# Altium footprint library WR-MM.PcbLib: 120 footprints (part 2 of 8)
Each footprint in its own frame and in the unit in brackets; x right, y up, seen from the top. Pads: shape width x height; smd on the part's side, far side on the other; paste and mask are expansions set on the pad; w line width, h text height; cw(c..) or ccw(c..) is an arc to the next point about the centre after c.
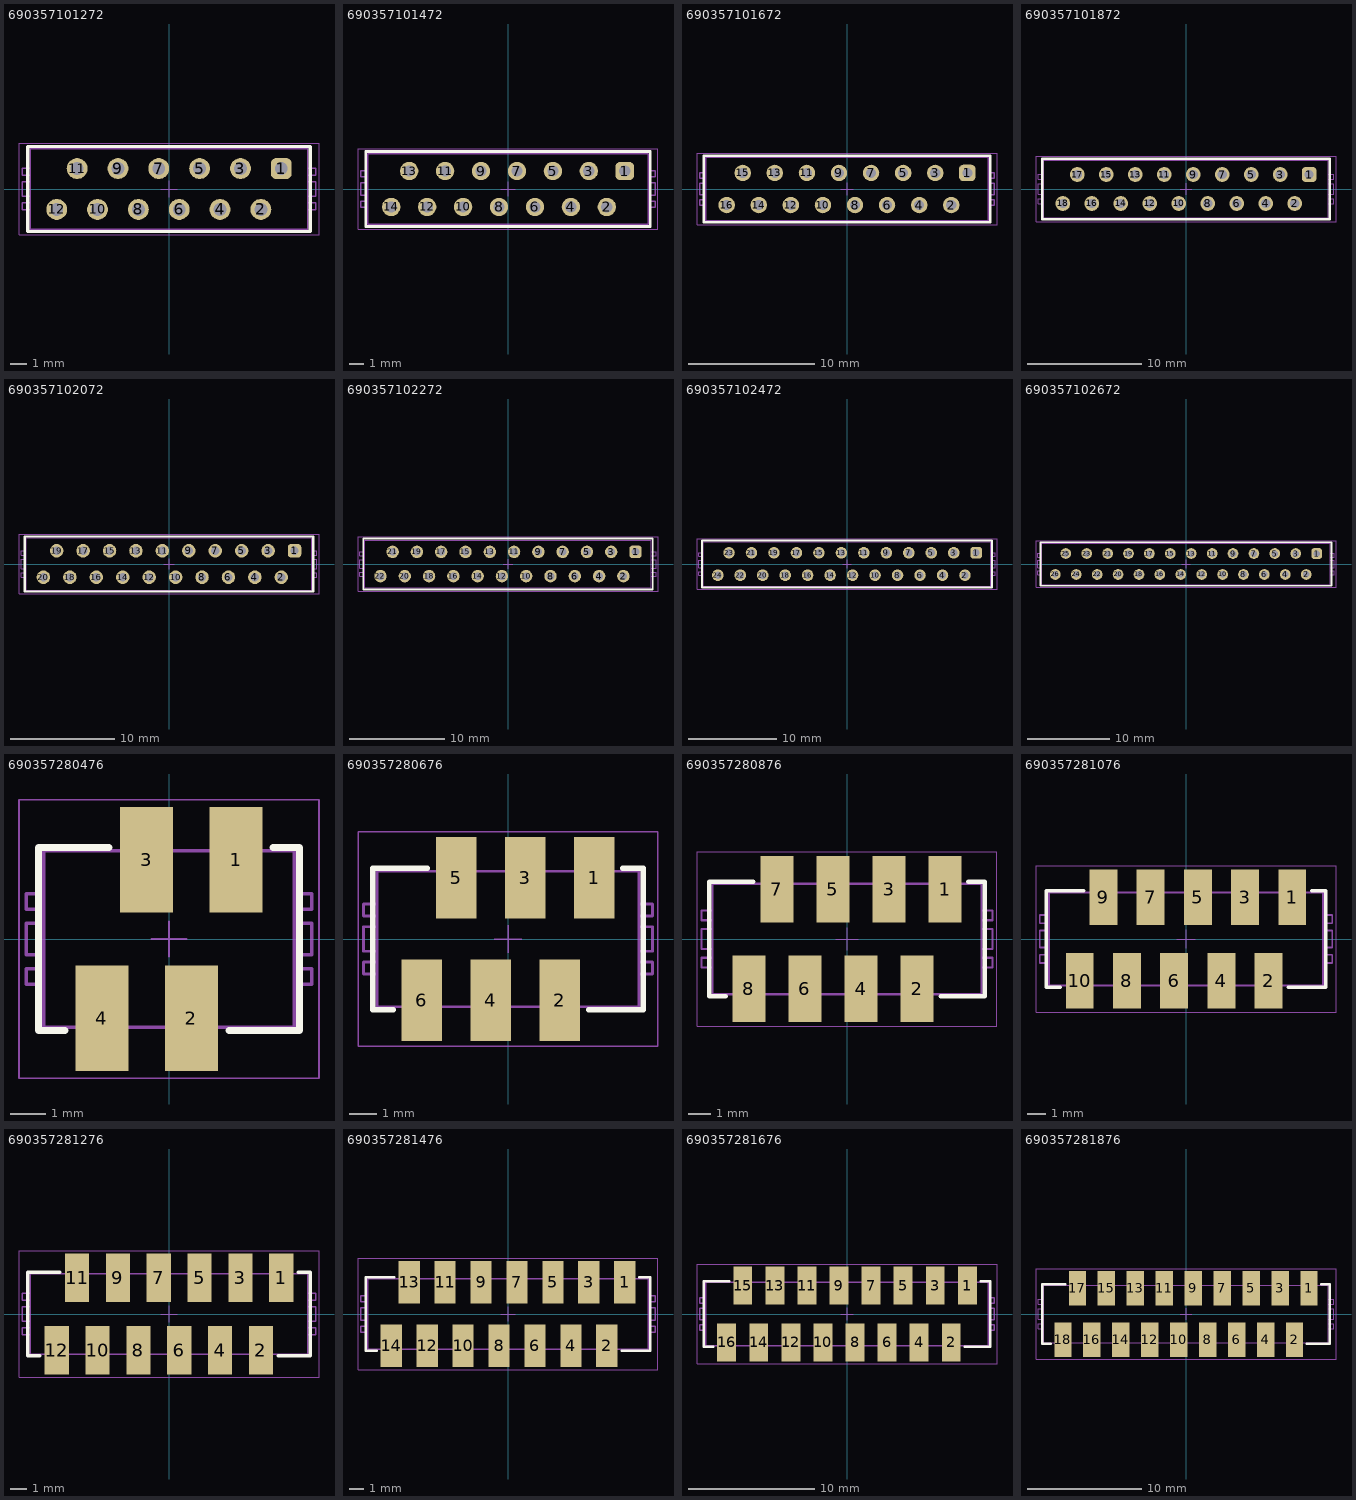
[diagram p1: the footprints below, top view; thin cyan lines are the x and y axes]

## 690357101272 [mm] "MiniModule Connectors, PCB Type, Male, THT, Vertical, 12p"
height 7.3
pads (12):
  rrect50% 1.3x1.3 hole 0.8: 1(6.985,1.27)
  round 1.3 hole 0.8: 2(5.715,-1.27) 3(4.445,1.27) 4(3.175,-1.27) 5(1.905,1.27) 6(0.635,-1.27) 7(-0.635,1.27) 8(-1.905,-1.27) 9(-3.175,1.27) 10(-4.445,-1.27) 11(-5.715,1.27) 12(-6.985,-1.27)
Top Overlay:
  lines w0.2: -8.785,-2.65 8.785,-2.65 8.785,2.65 -8.785,2.65 -8.785,-2.65
Top Designator:
  text ".Designator" at -7.498,-0.5 h1.5
Top Component Outline:
  lines w0.1: -8.635,-1.29 -9.135,-1.29 -9.135,-0.85 -8.635,-0.85 ; -8.635,-0.45 -9.135,-0.45 -9.135,0.45 -8.635,0.45 ; -8.635,0.85 -9.135,0.85 -9.135,1.29 -8.635,1.29 ; 8.635,-1.29 9.135,-1.29 9.135,-0.85 8.635,-0.85 ; 8.635,-0.45 9.135,-0.45 9.135,0.45 8.635,0.45 ; 8.635,0.85 9.135,0.85 9.135,1.29 8.635,1.29 ; -8.635,-2.5 -8.635,2.5 8.635,2.5 8.635,-2.5 -8.635,-2.5
Top 3D Body:
  lines w0.1: -8.635,-1.29 -9.135,-1.29 -9.135,-0.85 -8.635,-0.85 ; -8.635,-0.45 -9.135,-0.45 -9.135,0.45 -8.635,0.45 ; -8.635,0.85 -9.135,0.85 -9.135,1.29 -8.635,1.29 ; 8.635,-1.29 9.135,-1.29 9.135,-0.85 8.635,-0.85 ; 8.635,-0.45 9.135,-0.45 9.135,0.45 8.635,0.45 ; 8.635,0.85 9.135,0.85 9.135,1.29 8.635,1.29 ; -8.635,-2.5 8.635,-2.5 8.635,2.5 -8.635,2.5 -8.635,-2.5
Top Courtyard:
  lines w0.05: -0.5,0 0.5,0 ; 0,-0.5 0,0.5 ; -9.335,-2.85 9.335,-2.85 9.335,2.85 -9.335,2.85 -9.335,-2.85
3D body "690357101272.stp": height 7.05, standoff -3.05, extent -9.135,-2.5 9.135,2.5

## 690357101472 [mm] "MiniModule Connectors, PCB Type, Male, THT, Vertical, 14p"
height 7.3
pads (14):
  rrect50% 1.3x1.3 hole 0.8: 1(8.255,1.27)
  round 1.3 hole 0.8: 2(6.985,-1.27) 3(5.715,1.27) 4(4.445,-1.27) 5(3.175,1.27) 6(1.905,-1.27) 7(0.635,1.27) 8(-0.635,-1.27) 9(-1.905,1.27) 10(-3.175,-1.27) 11(-4.445,1.27) 12(-5.715,-1.27) 13(-6.985,1.27) 14(-8.255,-1.27)
Top Overlay:
  lines w0.2: -10.055,-2.65 10.055,-2.65 10.055,2.65 -10.055,2.65 -10.055,-2.65
Top Designator:
  text ".Designator" at -7.498,-0.5 h1.5
Top Component Outline:
  lines w0.1: -9.905,-1.29 -10.405,-1.29 -10.405,-0.85 -9.905,-0.85 ; -9.905,-0.45 -10.405,-0.45 -10.405,0.45 -9.905,0.45 ; -9.905,0.85 -10.405,0.85 -10.405,1.29 -9.905,1.29 ; 9.905,-1.29 10.405,-1.29 10.405,-0.85 9.905,-0.85 ; 9.905,-0.45 10.405,-0.45 10.405,0.45 9.905,0.45 ; 9.905,0.85 10.405,0.85 10.405,1.29 9.905,1.29 ; -9.905,-2.5 -9.905,2.5 9.905,2.5 9.905,-2.5 -9.905,-2.5
Top 3D Body:
  lines w0.1: -9.905,-1.29 -10.405,-1.29 -10.405,-0.85 -9.905,-0.85 ; -9.905,-0.45 -10.405,-0.45 -10.405,0.45 -9.905,0.45 ; -9.905,0.85 -10.405,0.85 -10.405,1.29 -9.905,1.29 ; 9.905,-1.29 10.405,-1.29 10.405,-0.85 9.905,-0.85 ; 9.905,-0.45 10.405,-0.45 10.405,0.45 9.905,0.45 ; 9.905,0.85 10.405,0.85 10.405,1.29 9.905,1.29 ; -9.905,-2.5 9.905,-2.5 9.905,2.5 -9.905,2.5 -9.905,-2.5
Top Courtyard:
  lines w0.05: -0.5,0 0.5,0 ; 0,-0.5 0,0.5 ; -10.605,-2.85 10.605,-2.85 10.605,2.85 -10.605,2.85 -10.605,-2.85
3D body "690357101472.stp": height 7.05, standoff -3.05, extent -10.405,-2.5 10.405,2.5

## 690357101672 [mm] "MiniModule Connectors, PCB Type, Male, THT, Vertical, 16p"
height 7.3
pads (16):
  rrect50% 1.3x1.3 hole 0.8: 1(9.525,1.27)
  round 1.3 hole 0.8: 2(8.255,-1.27) 3(6.985,1.27) 4(5.715,-1.27) 5(4.445,1.27) 6(3.175,-1.27) 7(1.905,1.27) 8(0.635,-1.27) 9(-0.635,1.27) 10(-1.905,-1.27) 11(-3.175,1.27) 12(-4.445,-1.27) 13(-5.715,1.27) 14(-6.985,-1.27) 15(-8.255,1.27) 16(-9.525,-1.27)
Top Overlay:
  lines w0.2: -11.325,-2.65 -11.325,2.65 11.325,2.65 11.325,-2.65 -11.325,-2.65
Top Designator:
  text ".Designator" at -7.498,-0.5 h1.5
Top Component Outline:
  lines w0.1: -11.175,-1.29 -11.675,-1.29 -11.675,-0.85 -11.175,-0.85 ; -11.175,-0.45 -11.675,-0.45 -11.675,0.45 -11.175,0.45 ; -11.175,0.85 -11.675,0.85 -11.675,1.29 -11.175,1.29 ; 11.175,-1.29 11.675,-1.29 11.675,-0.85 11.175,-0.85 ; 11.175,-0.45 11.675,-0.45 11.675,0.45 11.175,0.45 ; 11.175,0.85 11.675,0.85 11.675,1.29 11.175,1.29 ; -11.175,-2.5 11.175,-2.5 11.175,2.5 -11.175,2.5 -11.175,-2.5
Top 3D Body:
  lines w0.1: -11.175,-1.29 -11.675,-1.29 -11.675,-0.85 -11.175,-0.85 ; -11.175,-0.45 -11.675,-0.45 -11.675,0.45 -11.175,0.45 ; -11.175,0.85 -11.675,0.85 -11.675,1.29 -11.175,1.29 ; 11.175,-1.29 11.675,-1.29 11.675,-0.85 11.175,-0.85 ; 11.175,-0.45 11.675,-0.45 11.675,0.45 11.175,0.45 ; 11.175,0.85 11.675,0.85 11.675,1.29 11.175,1.29 ; -11.175,-2.5 -11.175,2.5 11.175,2.5 11.175,-2.5 -11.175,-2.5
Top Courtyard:
  lines w0.05: -0.5,0 0.5,0 ; 0,-0.5 0,0.5 ; -11.875,-2.85 -11.875,2.85 11.875,2.85 11.875,-2.85 -11.875,-2.85
3D body "690357101672.stp": height 7.05, standoff -3.05, extent -11.675,-2.5 11.675,2.5

## 690357101872 [mm] "MiniModule Connectors, PCB Type, Male, THT, Vertical, 18p"
height 7.3
pads (18):
  rrect50% 1.3x1.3 hole 0.8: 1(10.795,1.27)
  round 1.3 hole 0.8: 2(9.525,-1.27) 3(8.255,1.27) 4(6.985,-1.27) 5(5.715,1.27) 6(4.445,-1.27) 7(3.175,1.27) 8(1.905,-1.27) 9(0.635,1.27) 10(-0.635,-1.27) 11(-1.905,1.27) 12(-3.175,-1.27) 13(-4.445,1.27) 14(-5.715,-1.27) 15(-6.985,1.27) 16(-8.255,-1.27) 17(-9.525,1.27) 18(-10.795,-1.27)
Top Overlay:
  lines w0.2: -12.595,-2.65 -12.595,2.65 12.595,2.65 12.595,-2.65 -12.595,-2.65
Top Designator:
  text ".Designator" at -7.498,-0.5 h1.5
Top Component Outline:
  lines w0.1: -12.445,-1.29 -12.945,-1.29 -12.945,-0.85 -12.445,-0.85 ; -12.445,-0.45 -12.945,-0.45 -12.945,0.45 -12.445,0.45 ; -12.445,0.85 -12.945,0.85 -12.945,1.29 -12.445,1.29 ; 12.445,-1.29 12.945,-1.29 12.945,-0.85 12.445,-0.85 ; 12.445,-0.45 12.945,-0.45 12.945,0.45 12.445,0.45 ; 12.445,0.85 12.945,0.85 12.945,1.29 12.445,1.29 ; -12.445,-2.5 12.445,-2.5 12.445,2.5 -12.445,2.5 -12.445,-2.5
Top 3D Body:
  lines w0.1: -12.445,-1.29 -12.945,-1.29 -12.945,-0.85 -12.445,-0.85 ; -12.445,-0.45 -12.945,-0.45 -12.945,0.45 -12.445,0.45 ; -12.445,0.85 -12.945,0.85 -12.945,1.29 -12.445,1.29 ; 12.445,-1.29 12.945,-1.29 12.945,-0.85 12.445,-0.85 ; 12.445,-0.45 12.945,-0.45 12.945,0.45 12.445,0.45 ; 12.445,0.85 12.945,0.85 12.945,1.29 12.445,1.29 ; -12.445,-2.5 -12.445,2.5 12.445,2.5 12.445,-2.5 -12.445,-2.5
Top Courtyard:
  lines w0.05: -0.5,0 0.5,0 ; 0,-0.5 0,0.5 ; -13.145,-2.85 -13.145,2.85 13.145,2.85 13.145,-2.85 -13.145,-2.85
3D body "690357101872.stp": height 7.05, standoff -3.05, extent -12.945,-2.5 12.945,2.5

## 690357102072 [mm] "MiniModule Connectors, PCB Type, Male, THT, Vertical, 20p"
height 7.3
pads (20):
  rrect50% 1.3x1.3 hole 0.8: 1(12.065,1.27)
  round 1.3 hole 0.8: 2(10.795,-1.27) 3(9.525,1.27) 4(8.255,-1.27) 5(6.985,1.27) 6(5.715,-1.27) 7(4.445,1.27) 8(3.175,-1.27) 9(1.905,1.27) 10(0.635,-1.27) 11(-0.635,1.27) 12(-1.905,-1.27) 13(-3.175,1.27) 14(-4.445,-1.27) 15(-5.715,1.27) 16(-6.985,-1.27) 17(-8.255,1.27) 18(-9.525,-1.27) 19(-10.795,1.27) 20(-12.065,-1.27)
Top Overlay:
  lines w0.2: -13.865,-2.65 13.865,-2.65 13.865,2.65 -13.865,2.65 -13.865,-2.65
Top Designator:
  text ".Designator" at -7.498,-0.5 h1.5
Top Component Outline:
  lines w0.1: -13.715,-1.29 -14.215,-1.29 -14.215,-0.85 -13.715,-0.85 ; -13.715,-0.45 -14.215,-0.45 -14.215,0.45 -13.715,0.45 ; -13.715,0.85 -14.215,0.85 -14.215,1.29 -13.715,1.29 ; 13.715,-1.29 14.215,-1.29 14.215,-0.85 13.715,-0.85 ; 13.715,-0.45 14.215,-0.45 14.215,0.45 13.715,0.45 ; 13.715,0.85 14.215,0.85 14.215,1.29 13.715,1.29 ; -13.715,-2.5 -13.715,2.5 13.715,2.5 13.715,-2.5 -13.715,-2.5
Top 3D Body:
  lines w0.1: -13.715,-1.29 -14.215,-1.29 -14.215,-0.85 -13.715,-0.85 ; -13.715,-0.45 -14.215,-0.45 -14.215,0.45 -13.715,0.45 ; -13.715,0.85 -14.215,0.85 -14.215,1.29 -13.715,1.29 ; 13.715,-1.29 14.215,-1.29 14.215,-0.85 13.715,-0.85 ; 13.715,-0.45 14.215,-0.45 14.215,0.45 13.715,0.45 ; 13.715,0.85 14.215,0.85 14.215,1.29 13.715,1.29 ; -13.715,-2.5 13.715,-2.5 13.715,2.5 -13.715,2.5 -13.715,-2.5
Top Courtyard:
  lines w0.05: -0.5,0 0.5,0 ; 0,-0.5 0,0.5 ; -14.415,-2.85 14.415,-2.85 14.415,2.85 -14.415,2.85 -14.415,-2.85
3D body "690357102072.stp": height 7.05, standoff -3.05, extent -14.215,-2.5 14.215,2.5

## 690357102272 [mm] "MiniModule Connectors, PCB Type, Male, THT, Vertical, 22p"
height 7.3
pads (22):
  rrect50% 1.3x1.3 hole 0.8: 1(13.335,1.27)
  round 1.3 hole 0.8: 2(12.065,-1.27) 3(10.795,1.27) 4(9.525,-1.27) 5(8.255,1.27) 6(6.985,-1.27) 7(5.715,1.27) 8(4.445,-1.27) 9(3.175,1.27) 10(1.905,-1.27) 11(0.635,1.27) 12(-0.635,-1.27) 13(-1.905,1.27) 14(-3.175,-1.27) 15(-4.445,1.27) 16(-5.715,-1.27) 17(-6.985,1.27) 18(-8.255,-1.27) 19(-9.525,1.27) 20(-10.795,-1.27) 21(-12.065,1.27) 22(-13.335,-1.27)
Top Overlay:
  lines w0.2: -15.135,-2.65 -15.135,2.65 15.135,2.65 15.135,-2.65 -15.135,-2.65
Top Designator:
  text ".Designator" at -7.498,-0.5 h1.5
Top Component Outline:
  lines w0.1: -14.985,-1.29 -15.485,-1.29 -15.485,-0.85 -14.985,-0.85 ; -14.985,-0.45 -15.485,-0.45 -15.485,0.45 -14.985,0.45 ; -14.985,0.85 -15.485,0.85 -15.485,1.29 -14.985,1.29 ; 14.985,-1.29 15.485,-1.29 15.485,-0.85 14.985,-0.85 ; 14.985,-0.45 15.485,-0.45 15.485,0.45 14.985,0.45 ; 14.985,0.85 15.485,0.85 15.485,1.29 14.985,1.29 ; -14.985,-2.5 14.985,-2.5 14.985,2.5 -14.985,2.5 -14.985,-2.5
Top 3D Body:
  lines w0.1: -14.985,-1.29 -15.485,-1.29 -15.485,-0.85 -14.985,-0.85 ; -14.985,-0.45 -15.485,-0.45 -15.485,0.45 -14.985,0.45 ; -14.985,0.85 -15.485,0.85 -15.485,1.29 -14.985,1.29 ; 14.985,-1.29 15.485,-1.29 15.485,-0.85 14.985,-0.85 ; 14.985,-0.45 15.485,-0.45 15.485,0.45 14.985,0.45 ; 14.985,0.85 15.485,0.85 15.485,1.29 14.985,1.29 ; -14.985,-2.5 -14.985,2.5 14.985,2.5 14.985,-2.5 -14.985,-2.5
Top Courtyard:
  lines w0.05: -0.5,0 0.5,0 ; 0,-0.5 0,0.5 ; -15.685,-2.85 -15.685,2.85 15.685,2.85 15.685,-2.85 -15.685,-2.85
3D body "690357102272.stp": height 7.05, standoff -3.05, extent -15.485,-2.5 15.485,2.5

## 690357102472 [mm] "MiniModule Connectors, PCB Type, Male, THT, Vertical, 24p"
height 7.3
pads (24):
  rrect50% 1.3x1.3 hole 0.8: 1(14.605,1.27)
  round 1.3 hole 0.8: 2(13.335,-1.27) 3(12.065,1.27) 4(10.795,-1.27) 5(9.525,1.27) 6(8.255,-1.27) 7(6.985,1.27) 8(5.715,-1.27) 9(4.445,1.27) 10(3.175,-1.27) 11(1.905,1.27) 12(0.635,-1.27) 13(-0.635,1.27) 14(-1.905,-1.27) 15(-3.175,1.27) 16(-4.445,-1.27) 17(-5.715,1.27) 18(-6.985,-1.27) 19(-8.255,1.27) 20(-9.525,-1.27) 21(-10.795,1.27) 22(-12.065,-1.27) 23(-13.335,1.27) 24(-14.605,-1.27)
Top Overlay:
  lines w0.2: -16.405,-2.65 -16.405,2.65 16.405,2.65 16.405,-2.65 -16.405,-2.65
Top Designator:
  text ".Designator" at -7.498,-0.5 h1.5
Top Component Outline:
  lines w0.1: -16.255,-1.29 -16.755,-1.29 -16.755,-0.85 -16.255,-0.85 ; -16.255,-0.45 -16.755,-0.45 -16.755,0.45 -16.255,0.45 ; -16.255,0.85 -16.755,0.85 -16.755,1.29 -16.255,1.29 ; 16.255,-1.29 16.755,-1.29 16.755,-0.85 16.255,-0.85 ; 16.255,-0.45 16.755,-0.45 16.755,0.45 16.255,0.45 ; 16.255,0.85 16.755,0.85 16.755,1.29 16.255,1.29 ; -16.255,-2.5 16.255,-2.5 16.255,2.5 -16.255,2.5 -16.255,-2.5
Top 3D Body:
  lines w0.1: -16.255,-1.29 -16.755,-1.29 -16.755,-0.85 -16.255,-0.85 ; -16.255,-0.45 -16.755,-0.45 -16.755,0.45 -16.255,0.45 ; -16.255,0.85 -16.755,0.85 -16.755,1.29 -16.255,1.29 ; 16.255,-1.29 16.755,-1.29 16.755,-0.85 16.255,-0.85 ; 16.255,-0.45 16.755,-0.45 16.755,0.45 16.255,0.45 ; 16.255,0.85 16.755,0.85 16.755,1.29 16.255,1.29 ; -16.255,-2.5 -16.255,2.5 16.255,2.5 16.255,-2.5 -16.255,-2.5
Top Courtyard:
  lines w0.05: -0.5,0 0.5,0 ; 0,-0.5 0,0.5 ; -16.955,-2.85 -16.955,2.85 16.955,2.85 16.955,-2.85 -16.955,-2.85
3D body "690357102472.stp": height 7.05, standoff -3.05, extent -16.755,-2.5 16.755,2.5

## 690357102672 [mm] "MiniModule Connectors, PCB Type, Male, THT, Vertical, 26p"
height 7.3
pads (26):
  rrect50% 1.3x1.3 hole 0.8: 1(15.875,1.27)
  round 1.3 hole 0.8: 2(14.605,-1.27) 3(13.335,1.27) 4(12.065,-1.27) 5(10.795,1.27) 6(9.525,-1.27) 7(8.255,1.27) 8(6.985,-1.27) 9(5.715,1.27) 10(4.445,-1.27) 11(3.175,1.27) 12(1.905,-1.27) 13(0.635,1.27) 14(-0.635,-1.27) 15(-1.905,1.27) 16(-3.175,-1.27) 17(-4.445,1.27) 18(-5.715,-1.27) 19(-6.985,1.27) 20(-8.255,-1.27) 21(-9.525,1.27) 22(-10.795,-1.27) 23(-12.065,1.27) 24(-13.335,-1.27) 25(-14.605,1.27) 26(-15.875,-1.27)
Top Overlay:
  lines w0.2: -17.675,-2.65 -17.675,2.65 17.675,2.65 17.675,-2.65 -17.675,-2.65
Top Designator:
  text ".Designator" at -7.498,-0.5 h1.5
Top Component Outline:
  lines w0.1: -17.525,-1.29 -18.025,-1.29 -18.025,-0.85 -17.525,-0.85 ; -17.525,-0.45 -18.025,-0.45 -18.025,0.45 -17.525,0.45 ; -17.525,0.85 -18.025,0.85 -18.025,1.29 -17.525,1.29 ; 17.525,-1.29 18.025,-1.29 18.025,-0.85 17.525,-0.85 ; 17.525,-0.45 18.025,-0.45 18.025,0.45 17.525,0.45 ; 17.525,0.85 18.025,0.85 18.025,1.29 17.525,1.29 ; -17.525,-2.5 17.525,-2.5 17.525,2.5 -17.525,2.5 -17.525,-2.5
Top 3D Body:
  lines w0.1: -17.525,-1.29 -18.025,-1.29 -18.025,-0.85 -17.525,-0.85 ; -17.525,-0.45 -18.025,-0.45 -18.025,0.45 -17.525,0.45 ; -17.525,0.85 -18.025,0.85 -18.025,1.29 -17.525,1.29 ; 17.525,-1.29 18.025,-1.29 18.025,-0.85 17.525,-0.85 ; 17.525,-0.45 18.025,-0.45 18.025,0.45 17.525,0.45 ; 17.525,0.85 18.025,0.85 18.025,1.29 17.525,1.29 ; -17.525,-2.5 -17.525,2.5 17.525,2.5 17.525,-2.5 -17.525,-2.5
Top Courtyard:
  lines w0.05: -0.5,0 0.5,0 ; 0,-0.5 0,0.5 ; -18.225,-2.85 -18.225,2.85 18.225,2.85 18.225,-2.85 -18.225,-2.85
3D body "690357102672.stp": height 7.05, standoff -3.05, extent -18.025,-2.5 18.025,2.5

## 690357280476 [mm] "MiniModule Connectors, PCB Type, Male, SMT, Vertical, 4p"
height 4.8
pads (4):
  rect 1.5x3 smd: 1(1.905,2.25) 2(0.635,-2.25) 3(-0.635,2.25) 4(-1.905,-2.25)
Top Overlay:
  lines w0.2: -2.95,-2.6 -3.705,-2.6 -3.705,2.6 -1.7,2.6 ; 1.7,-2.6 3.705,-2.6 3.705,2.6 2.95,2.6
Top Designator:
  text ".Designator" at -7.498,-0.5 h1.5
Top Component Outline:
  lines w0.1: -3.555,-1.29 -4.055,-1.29 -4.055,-0.85 -3.555,-0.85 ; -3.555,-0.45 -4.055,-0.45 -4.055,0.45 -3.555,0.45 ; -3.555,0.85 -4.055,0.85 -4.055,1.29 -3.555,1.29 ; -2.155,-2.5 -2.155,-3.25 -1.655,-3.25 -1.655,-2.5 ; -0.885,2.5 -0.885,3.25 -0.385,3.25 -0.385,2.5 ; 0.385,-2.5 0.385,-3.25 0.885,-3.25 0.885,-2.5 ; 1.655,2.5 1.655,3.25 2.155,3.25 2.155,2.5 ; 3.555,-1.29 4.055,-1.29 4.055,-0.85 3.555,-0.85 ; 3.555,-0.45 4.055,-0.45 4.055,0.45 3.555,0.45 ; 3.555,0.85 4.055,0.85 4.055,1.29 3.555,1.29 ; -3.555,-2.5 3.555,-2.5 ; -3.555,-2.5 3.555,-2.5 ; -3.555,-2.5 -3.555,2.5 3.555,2.5 3.555,-2.5
Top 3D Body:
  lines w0.1: -3.555,-1.29 -4.055,-1.29 -4.055,-0.85 -3.555,-0.85 ; -3.555,-0.45 -4.055,-0.45 -4.055,0.45 -3.555,0.45 ; -3.555,0.85 -4.055,0.85 -4.055,1.29 -3.555,1.29 ; -2.155,-2.5 -2.155,-3.25 -1.655,-3.25 -1.655,-2.5 ; -0.885,2.5 -0.885,3.25 -0.385,3.25 -0.385,2.5 ; 0.385,-2.5 0.385,-3.25 0.885,-3.25 0.885,-2.5 ; 1.655,2.5 1.655,3.25 2.155,3.25 2.155,2.5 ; 3.555,-1.29 4.055,-1.29 4.055,-0.85 3.555,-0.85 ; 3.555,-0.45 4.055,-0.45 4.055,0.45 3.555,0.45 ; 3.555,0.85 4.055,0.85 4.055,1.29 3.555,1.29 ; -3.555,-2.5 -3.555,2.5 3.555,2.5 3.555,-2.5 ; -3.555,-2.5 3.555,-2.5 ; -3.555,-2.5 3.555,-2.5
Top Courtyard:
  lines w0.05: -0.5,0 0.5,0 ; 0,-0.5 0,0.5 ; -4.255,-3.95 4.255,-3.95 4.255,3.95 -4.255,3.95 -4.255,-3.95
3D body "690357280476.stp": height 5.16, standoff 0.01, extent -4.055,-3.25 4.055,3.25

## 690357280676 [mm] "MiniModule Connectors, PCB Type, Male, SMT, Vertical, 6p"
height 4.8
pads (6):
  rect 1.5x3 smd: 1(3.175,2.25) 2(1.905,-2.25) 3(0.635,2.25) 4(-0.635,-2.25) 5(-1.905,2.25) 6(-3.175,-2.25)
Top Overlay:
  lines w0.2: -4.22,-2.6 -4.975,-2.6 -4.975,2.6 -2.97,2.6 ; 2.97,-2.6 4.975,-2.6 4.975,2.6 4.22,2.6
Top Designator:
  text ".Designator" at -7.498,-0.5 h1.5
Top Component Outline:
  lines w0.1: -4.825,-1.29 -5.325,-1.29 -5.325,-0.85 -4.825,-0.85 ; -4.825,-0.45 -5.325,-0.45 -5.325,0.45 -4.825,0.45 ; -4.825,0.85 -5.325,0.85 -5.325,1.29 -4.825,1.29 ; -3.425,-2.5 -3.425,-3.25 -2.925,-3.25 -2.925,-2.5 ; -2.155,2.5 -2.155,3.25 -1.655,3.25 -1.655,2.5 ; -0.885,-2.5 -0.885,-3.25 -0.385,-3.25 -0.385,-2.5 ; 0.385,2.5 0.385,3.25 0.885,3.25 0.885,2.5 ; 1.655,-2.5 1.655,-3.25 2.155,-3.25 2.155,-2.5 ; 2.925,2.5 2.925,3.25 3.425,3.25 3.425,2.5 ; 4.825,-1.29 5.325,-1.29 5.325,-0.85 4.825,-0.85 ; 4.825,-0.45 5.325,-0.45 5.325,0.45 4.825,0.45 ; 4.825,0.85 5.325,0.85 5.325,1.29 4.825,1.29 ; -4.825,-2.5 4.825,-2.5 ; -4.825,-2.5 4.825,-2.5 ; -4.825,-2.5 -4.825,2.5 4.825,2.5 4.825,-2.5
Top 3D Body:
  lines w0.1: -4.825,-1.29 -5.325,-1.29 -5.325,-0.85 -4.825,-0.85 ; -4.825,-0.45 -5.325,-0.45 -5.325,0.45 -4.825,0.45 ; -4.825,0.85 -5.325,0.85 -5.325,1.29 -4.825,1.29 ; -3.425,-2.5 -3.425,-3.25 -2.925,-3.25 -2.925,-2.5 ; -2.155,2.5 -2.155,3.25 -1.655,3.25 -1.655,2.5 ; -0.885,-2.5 -0.885,-3.25 -0.385,-3.25 -0.385,-2.5 ; 0.385,2.5 0.385,3.25 0.885,3.25 0.885,2.5 ; 1.655,-2.5 1.655,-3.25 2.155,-3.25 2.155,-2.5 ; 2.925,2.5 2.925,3.25 3.425,3.25 3.425,2.5 ; 4.825,-1.29 5.325,-1.29 5.325,-0.85 4.825,-0.85 ; 4.825,-0.45 5.325,-0.45 5.325,0.45 4.825,0.45 ; 4.825,0.85 5.325,0.85 5.325,1.29 4.825,1.29 ; -4.825,-2.5 -4.825,2.5 4.825,2.5 4.825,-2.5 ; -4.825,-2.5 4.825,-2.5 ; -4.825,-2.5 4.825,-2.5
Top Courtyard:
  lines w0.05: -0.5,0 0.5,0 ; 0,-0.5 0,0.5 ; -5.525,-3.95 5.525,-3.95 5.525,3.95 -5.525,3.95 -5.525,-3.95
3D body "690357280676.stp": height 5.16, standoff 0.01, extent -5.325,-3.25 5.325,3.25

## 690357280876 [mm] "MiniModule Connectors, PCB Type, Male, SMT, Vertical, 8p"
height 4.8
pads (8):
  rect 1.5x3 smd: 1(4.445,2.25) 2(3.175,-2.25) 3(1.905,2.25) 4(0.635,-2.25) 5(-0.635,2.25) 6(-1.905,-2.25) 7(-3.175,2.25) 8(-4.445,-2.25)
Top Overlay:
  lines w0.2: -5.49,-2.6 -6.245,-2.6 -6.245,2.6 -4.24,2.6 ; 4.24,-2.6 6.245,-2.6 6.245,2.6 5.49,2.6
Top Designator:
  text ".Designator" at -7.498,-0.5 h1.5
Top Component Outline:
  lines w0.1: -6.095,-1.29 -6.595,-1.29 -6.595,-0.85 -6.095,-0.85 ; -6.095,-0.45 -6.595,-0.45 -6.595,0.45 -6.095,0.45 ; -6.095,0.85 -6.595,0.85 -6.595,1.29 -6.095,1.29 ; -4.695,-2.5 -4.695,-3.25 -4.195,-3.25 -4.195,-2.5 ; -3.425,2.5 -3.425,3.25 -2.925,3.25 -2.925,2.5 ; -2.155,-2.5 -2.155,-3.25 -1.655,-3.25 -1.655,-2.5 ; -0.885,2.5 -0.885,3.25 -0.385,3.25 -0.385,2.5 ; 0.385,-2.5 0.385,-3.25 0.885,-3.25 0.885,-2.5 ; 1.655,2.5 1.655,3.25 2.155,3.25 2.155,2.5 ; 2.925,-2.5 2.925,-3.25 3.425,-3.25 3.425,-2.5 ; 4.195,2.5 4.195,3.25 4.695,3.25 4.695,2.5 ; 6.095,-1.29 6.595,-1.29 6.595,-0.85 6.095,-0.85 ; 6.095,-0.45 6.595,-0.45 6.595,0.45 6.095,0.45 ; 6.095,0.85 6.595,0.85 6.595,1.29 6.095,1.29 ; -6.095,-2.5 -6.095,2.5 6.095,2.5 6.095,-2.5 ; -6.095,-2.5 6.095,-2.5 ; -6.095,-2.5 6.095,-2.5
Top 3D Body:
  lines w0.1: -6.095,-1.29 -6.595,-1.29 -6.595,-0.85 -6.095,-0.85 ; -6.095,-0.45 -6.595,-0.45 -6.595,0.45 -6.095,0.45 ; -6.095,0.85 -6.595,0.85 -6.595,1.29 -6.095,1.29 ; -4.695,-2.5 -4.695,-3.25 -4.195,-3.25 -4.195,-2.5 ; -3.425,2.5 -3.425,3.25 -2.925,3.25 -2.925,2.5 ; -2.155,-2.5 -2.155,-3.25 -1.655,-3.25 -1.655,-2.5 ; -0.885,2.5 -0.885,3.25 -0.385,3.25 -0.385,2.5 ; 0.385,-2.5 0.385,-3.25 0.885,-3.25 0.885,-2.5 ; 1.655,2.5 1.655,3.25 2.155,3.25 2.155,2.5 ; 2.925,-2.5 2.925,-3.25 3.425,-3.25 3.425,-2.5 ; 4.195,2.5 4.195,3.25 4.695,3.25 4.695,2.5 ; 6.095,-1.29 6.595,-1.29 6.595,-0.85 6.095,-0.85 ; 6.095,-0.45 6.595,-0.45 6.595,0.45 6.095,0.45 ; 6.095,0.85 6.595,0.85 6.595,1.29 6.095,1.29 ; -6.095,-2.5 6.095,-2.5 ; -6.095,-2.5 6.095,-2.5 ; -6.095,-2.5 -6.095,2.5 6.095,2.5 6.095,-2.5
Top Courtyard:
  lines w0.05: -0.5,0 0.5,0 ; 0,-0.5 0,0.5 ; -6.795,-3.95 -6.795,3.95 6.795,3.95 6.795,-3.95 -6.795,-3.95
3D body "690357280876.stp": height 5.16, standoff 0.01, extent -6.595,-3.25 6.595,3.25

## 690357281076 [mm] "MiniModule Connectors, PCB Type, Male, SMT, Vertical, 10p"
height 4.8
pads (10):
  rect 1.5x3 smd: 1(5.715,2.25) 2(4.445,-2.25) 3(3.175,2.25) 4(1.905,-2.25) 5(0.635,2.25) 6(-0.635,-2.25) 7(-1.905,2.25) 8(-3.175,-2.25) 9(-4.445,2.25) 10(-5.715,-2.25)
Top Overlay:
  lines w0.2: -6.76,-2.6 -7.515,-2.6 -7.515,2.6 -5.51,2.6 ; 5.51,-2.6 7.515,-2.6 7.515,2.6 6.76,2.6
Top Designator:
  text ".Designator" at -7.498,-0.5 h1.5
Top Component Outline:
  lines w0.1: -7.365,-1.29 -7.865,-1.29 -7.865,-0.85 -7.365,-0.85 ; -7.365,-0.45 -7.865,-0.45 -7.865,0.45 -7.365,0.45 ; -7.365,0.85 -7.865,0.85 -7.865,1.29 -7.365,1.29 ; -5.965,-2.5 -5.965,-3.25 -5.465,-3.25 -5.465,-2.5 ; -4.695,2.5 -4.695,3.25 -4.195,3.25 -4.195,2.5 ; -3.425,-2.5 -3.425,-3.25 -2.925,-3.25 -2.925,-2.5 ; -2.155,2.5 -2.155,3.25 -1.655,3.25 -1.655,2.5 ; -0.885,-2.5 -0.885,-3.25 -0.385,-3.25 -0.385,-2.5 ; 0.385,2.5 0.385,3.25 0.885,3.25 0.885,2.5 ; 1.655,-2.5 1.655,-3.25 2.155,-3.25 2.155,-2.5 ; 2.925,2.5 2.925,3.25 3.425,3.25 3.425,2.5 ; 4.195,-2.5 4.195,-3.25 4.695,-3.25 4.695,-2.5 ; 5.465,2.5 5.465,3.25 5.965,3.25 5.965,2.5 ; 7.365,-1.29 7.865,-1.29 7.865,-0.85 7.365,-0.85 ; 7.365,-0.45 7.865,-0.45 7.865,0.45 7.365,0.45 ; 7.365,0.85 7.865,0.85 7.865,1.29 7.365,1.29 ; -7.365,-2.5 7.365,-2.5 ; -7.365,-2.5 7.365,-2.5 ; -7.365,-2.5 -7.365,2.5 7.365,2.5 7.365,-2.5
Top 3D Body:
  lines w0.1: -7.365,-1.29 -7.865,-1.29 -7.865,-0.85 -7.365,-0.85 ; -7.365,-0.45 -7.865,-0.45 -7.865,0.45 -7.365,0.45 ; -7.365,0.85 -7.865,0.85 -7.865,1.29 -7.365,1.29 ; -5.965,-2.5 -5.965,-3.25 -5.465,-3.25 -5.465,-2.5 ; -4.695,2.5 -4.695,3.25 -4.195,3.25 -4.195,2.5 ; -3.425,-2.5 -3.425,-3.25 -2.925,-3.25 -2.925,-2.5 ; -2.155,2.5 -2.155,3.25 -1.655,3.25 -1.655,2.5 ; -0.885,-2.5 -0.885,-3.25 -0.385,-3.25 -0.385,-2.5 ; 0.385,2.5 0.385,3.25 0.885,3.25 0.885,2.5 ; 1.655,-2.5 1.655,-3.25 2.155,-3.25 2.155,-2.5 ; 2.925,2.5 2.925,3.25 3.425,3.25 3.425,2.5 ; 4.195,-2.5 4.195,-3.25 4.695,-3.25 4.695,-2.5 ; 5.465,2.5 5.465,3.25 5.965,3.25 5.965,2.5 ; 7.365,-1.29 7.865,-1.29 7.865,-0.85 7.365,-0.85 ; 7.365,-0.45 7.865,-0.45 7.865,0.45 7.365,0.45 ; 7.365,0.85 7.865,0.85 7.865,1.29 7.365,1.29 ; -7.365,-2.5 -7.365,2.5 7.365,2.5 7.365,-2.5 ; -7.365,-2.5 7.365,-2.5 ; -7.365,-2.5 7.365,-2.5
Top Courtyard:
  lines w0.05: -0.5,0 0.5,0 ; 0,-0.5 0,0.5 ; -8.065,-3.95 8.065,-3.95 8.065,3.95 -8.065,3.95 -8.065,-3.95
3D body "690357281076.stp": height 5.16, standoff 0.01, extent -7.865,-3.25 7.865,3.25

## 690357281276 [mm] "MiniModule Connectors, PCB Type, Male, SMT, Vertical, 12p"
height 4.8
pads (12):
  rect 1.5x3 smd: 1(6.985,2.25) 2(5.715,-2.25) 3(4.445,2.25) 4(3.175,-2.25) 5(1.905,2.25) 6(0.635,-2.25) 7(-0.635,2.25) 8(-1.905,-2.25) 9(-3.175,2.25) 10(-4.445,-2.25) 11(-5.715,2.25) 12(-6.985,-2.25)
Top Overlay:
  lines w0.2: -8.03,-2.6 -8.785,-2.6 -8.785,2.6 -6.78,2.6 ; 6.78,-2.6 8.785,-2.6 8.785,2.6 8.03,2.6
Top Designator:
  text ".Designator" at -7.498,-0.5 h1.5
Top Component Outline:
  lines w0.1: -8.635,-1.29 -9.135,-1.29 -9.135,-0.85 -8.635,-0.85 ; -8.635,-0.45 -9.135,-0.45 -9.135,0.45 -8.635,0.45 ; -8.635,0.85 -9.135,0.85 -9.135,1.29 -8.635,1.29 ; -7.235,-2.5 -7.235,-3.25 -6.735,-3.25 -6.735,-2.5 ; -5.965,2.5 -5.965,3.25 -5.465,3.25 -5.465,2.5 ; -4.695,-2.5 -4.695,-3.25 -4.195,-3.25 -4.195,-2.5 ; -3.425,2.5 -3.425,3.25 -2.925,3.25 -2.925,2.5 ; -2.155,-2.5 -2.155,-3.25 -1.655,-3.25 -1.655,-2.5 ; -0.885,2.5 -0.885,3.25 -0.385,3.25 -0.385,2.5 ; 0.385,-2.5 0.385,-3.25 0.885,-3.25 0.885,-2.5 ; 1.655,2.5 1.655,3.25 2.155,3.25 2.155,2.5 ; 2.925,-2.5 2.925,-3.25 3.425,-3.25 3.425,-2.5 ; 4.195,2.5 4.195,3.25 4.695,3.25 4.695,2.5 ; 5.465,-2.5 5.465,-3.25 5.965,-3.25 5.965,-2.5 ; 6.735,2.5 6.735,3.25 7.235,3.25 7.235,2.5 ; 8.635,-1.29 9.135,-1.29 9.135,-0.85 8.635,-0.85 ; 8.635,-0.45 9.135,-0.45 9.135,0.45 8.635,0.45 ; 8.635,0.85 9.135,0.85 9.135,1.29 8.635,1.29 ; -8.635,-2.5 -8.635,2.5 8.635,2.5 8.635,-2.5 ; -8.635,-2.5 8.635,-2.5 ; -8.635,-2.5 8.635,-2.5
Top 3D Body:
  lines w0.1: -8.635,-1.29 -9.135,-1.29 -9.135,-0.85 -8.635,-0.85 ; -8.635,-0.45 -9.135,-0.45 -9.135,0.45 -8.635,0.45 ; -8.635,0.85 -9.135,0.85 -9.135,1.29 -8.635,1.29 ; -7.235,-2.5 -7.235,-3.25 -6.735,-3.25 -6.735,-2.5 ; -5.965,2.5 -5.965,3.25 -5.465,3.25 -5.465,2.5 ; -4.695,-2.5 -4.695,-3.25 -4.195,-3.25 -4.195,-2.5 ; -3.425,2.5 -3.425,3.25 -2.925,3.25 -2.925,2.5 ; -2.155,-2.5 -2.155,-3.25 -1.655,-3.25 -1.655,-2.5 ; -0.885,2.5 -0.885,3.25 -0.385,3.25 -0.385,2.5 ; 0.385,-2.5 0.385,-3.25 0.885,-3.25 0.885,-2.5 ; 1.655,2.5 1.655,3.25 2.155,3.25 2.155,2.5 ; 2.925,-2.5 2.925,-3.25 3.425,-3.25 3.425,-2.5 ; 4.195,2.5 4.195,3.25 4.695,3.25 4.695,2.5 ; 5.465,-2.5 5.465,-3.25 5.965,-3.25 5.965,-2.5 ; 6.735,2.5 6.735,3.25 7.235,3.25 7.235,2.5 ; 8.635,-1.29 9.135,-1.29 9.135,-0.85 8.635,-0.85 ; 8.635,-0.45 9.135,-0.45 9.135,0.45 8.635,0.45 ; 8.635,0.85 9.135,0.85 9.135,1.29 8.635,1.29 ; -8.635,-2.5 8.635,-2.5 ; -8.635,-2.5 8.635,-2.5 ; -8.635,-2.5 -8.635,2.5 8.635,2.5 8.635,-2.5
Top Courtyard:
  lines w0.05: -0.5,0 0.5,0 ; 0,-0.5 0,0.5 ; -9.335,-3.95 -9.335,3.95 9.335,3.95 9.335,-3.95 -9.335,-3.95
3D body "690357281276.stp": height 5.16, standoff 0.01, extent -9.135,-3.25 9.135,3.25

## 690357281476 [mm] "MiniModule Connectors, PCB Type, Male, SMT, Vertical, 14p"
height 4.8
pads (14):
  rect 1.5x3 smd: 1(8.255,2.25) 2(6.985,-2.25) 3(5.715,2.25) 4(4.445,-2.25) 5(3.175,2.25) 6(1.905,-2.25) 7(0.635,2.25) 8(-0.635,-2.25) 9(-1.905,2.25) 10(-3.175,-2.25) 11(-4.445,2.25) 12(-5.715,-2.25) 13(-6.985,2.25) 14(-8.255,-2.25)
Top Overlay:
  lines w0.2: -9.3,-2.6 -10.055,-2.6 -10.055,2.6 -8.05,2.6 ; 8.05,-2.6 10.055,-2.6 10.055,2.6 9.3,2.6
Top Designator:
  text ".Designator" at -7.498,-0.5 h1.5
Top Component Outline:
  lines w0.1: -9.905,-1.29 -10.405,-1.29 -10.405,-0.85 -9.905,-0.85 ; -9.905,-0.45 -10.405,-0.45 -10.405,0.45 -9.905,0.45 ; -9.905,0.85 -10.405,0.85 -10.405,1.29 -9.905,1.29 ; -8.505,-2.5 -8.505,-3.25 -8.005,-3.25 -8.005,-2.5 ; -7.235,2.5 -7.235,3.25 -6.735,3.25 -6.735,2.5 ; -5.965,-2.5 -5.965,-3.25 -5.465,-3.25 -5.465,-2.5 ; -4.695,2.5 -4.695,3.25 -4.195,3.25 -4.195,2.5 ; -3.425,-2.5 -3.425,-3.25 -2.925,-3.25 -2.925,-2.5 ; -2.155,2.5 -2.155,3.25 -1.655,3.25 -1.655,2.5 ; -0.885,-2.5 -0.885,-3.25 -0.385,-3.25 -0.385,-2.5 ; 0.385,2.5 0.385,3.25 0.885,3.25 0.885,2.5 ; 1.655,-2.5 1.655,-3.25 2.155,-3.25 2.155,-2.5 ; 2.925,2.5 2.925,3.25 3.425,3.25 3.425,2.5 ; 4.195,-2.5 4.195,-3.25 4.695,-3.25 4.695,-2.5 ; 5.465,2.5 5.465,3.25 5.965,3.25 5.965,2.5 ; 6.735,-2.5 6.735,-3.25 7.235,-3.25 7.235,-2.5 ; 8.005,2.5 8.005,3.25 8.505,3.25 8.505,2.5 ; 9.905,-1.29 10.405,-1.29 10.405,-0.85 9.905,-0.85 ; 9.905,-0.45 10.405,-0.45 10.405,0.45 9.905,0.45 ; 9.905,0.85 10.405,0.85 10.405,1.29 9.905,1.29 ; -9.905,-2.5 9.905,-2.5 ; -9.905,-2.5 9.905,-2.5 ; -9.905,-2.5 -9.905,2.5 9.905,2.5 9.905,-2.5
Top 3D Body:
  lines w0.1: -9.905,-1.29 -10.405,-1.29 -10.405,-0.85 -9.905,-0.85 ; -9.905,-0.45 -10.405,-0.45 -10.405,0.45 -9.905,0.45 ; -9.905,0.85 -10.405,0.85 -10.405,1.29 -9.905,1.29 ; -8.505,-2.5 -8.505,-3.25 -8.005,-3.25 -8.005,-2.5 ; -7.235,2.5 -7.235,3.25 -6.735,3.25 -6.735,2.5 ; -5.965,-2.5 -5.965,-3.25 -5.465,-3.25 -5.465,-2.5 ; -4.695,2.5 -4.695,3.25 -4.195,3.25 -4.195,2.5 ; -3.425,-2.5 -3.425,-3.25 -2.925,-3.25 -2.925,-2.5 ; -2.155,2.5 -2.155,3.25 -1.655,3.25 -1.655,2.5 ; -0.885,-2.5 -0.885,-3.25 -0.385,-3.25 -0.385,-2.5 ; 0.385,2.5 0.385,3.25 0.885,3.25 0.885,2.5 ; 1.655,-2.5 1.655,-3.25 2.155,-3.25 2.155,-2.5 ; 2.925,2.5 2.925,3.25 3.425,3.25 3.425,2.5 ; 4.195,-2.5 4.195,-3.25 4.695,-3.25 4.695,-2.5 ; 5.465,2.5 5.465,3.25 5.965,3.25 5.965,2.5 ; 6.735,-2.5 6.735,-3.25 7.235,-3.25 7.235,-2.5 ; 8.005,2.5 8.005,3.25 8.505,3.25 8.505,2.5 ; 9.905,-1.29 10.405,-1.29 10.405,-0.85 9.905,-0.85 ; 9.905,-0.45 10.405,-0.45 10.405,0.45 9.905,0.45 ; 9.905,0.85 10.405,0.85 10.405,1.29 9.905,1.29 ; -9.905,-2.5 -9.905,2.5 9.905,2.5 9.905,-2.5 ; -9.905,-2.5 9.905,-2.5 ; -9.905,-2.5 9.905,-2.5
Top Courtyard:
  lines w0.05: -0.5,0 0.5,0 ; 0,-0.5 0,0.5 ; -10.605,-3.95 10.605,-3.95 10.605,3.95 -10.605,3.95 -10.605,-3.95
3D body "690357281476.stp": height 5.16, standoff 0.01, extent -10.405,-3.25 10.405,3.25

## 690357281676 [mm] "MiniModule Connectors, PCB Type, Male, SMT, Vertical, 16p"
height 4.8
pads (16):
  rect 1.5x3 smd: 1(9.525,2.25) 2(8.255,-2.25) 3(6.985,2.25) 4(5.715,-2.25) 5(4.445,2.25) 6(3.175,-2.25) 7(1.905,2.25) 8(0.635,-2.25) 9(-0.635,2.25) 10(-1.905,-2.25) 11(-3.175,2.25) 12(-4.445,-2.25) 13(-5.715,2.25) 14(-6.985,-2.25) 15(-8.255,2.25) 16(-9.525,-2.25)
Top Overlay:
  lines w0.2: -10.57,-2.6 -11.325,-2.6 -11.325,2.6 -9.32,2.6 ; 9.32,-2.6 11.325,-2.6 11.325,2.6 10.57,2.6
Top Designator:
  text ".Designator" at -7.498,-0.5 h1.5
Top Component Outline:
  lines w0.1: -11.175,-1.29 -11.675,-1.29 -11.675,-0.85 -11.175,-0.85 ; -11.175,-0.45 -11.675,-0.45 -11.675,0.45 -11.175,0.45 ; -11.175,0.85 -11.675,0.85 -11.675,1.29 -11.175,1.29 ; -9.775,-2.5 -9.775,-3.25 -9.275,-3.25 -9.275,-2.5 ; -8.505,2.5 -8.505,3.25 -8.005,3.25 -8.005,2.5 ; -7.235,-2.5 -7.235,-3.25 -6.735,-3.25 -6.735,-2.5 ; -5.965,2.5 -5.965,3.25 -5.465,3.25 -5.465,2.5 ; -4.695,-2.5 -4.695,-3.25 -4.195,-3.25 -4.195,-2.5 ; -3.425,2.5 -3.425,3.25 -2.925,3.25 -2.925,2.5 ; -2.155,-2.5 -2.155,-3.25 -1.655,-3.25 -1.655,-2.5 ; -0.885,2.5 -0.885,3.25 -0.385,3.25 -0.385,2.5 ; 0.385,-2.5 0.385,-3.25 0.885,-3.25 0.885,-2.5 ; 1.655,2.5 1.655,3.25 2.155,3.25 2.155,2.5 ; 2.925,-2.5 2.925,-3.25 3.425,-3.25 3.425,-2.5 ; 4.195,2.5 4.195,3.25 4.695,3.25 4.695,2.5 ; 5.465,-2.5 5.465,-3.25 5.965,-3.25 5.965,-2.5 ; 6.735,2.5 6.735,3.25 7.235,3.25 7.235,2.5 ; 8.005,-2.5 8.005,-3.25 8.505,-3.25 8.505,-2.5 ; 9.275,2.5 9.275,3.25 9.775,3.25 9.775,2.5 ; 11.175,-1.29 11.675,-1.29 11.675,-0.85 11.175,-0.85 ; 11.175,-0.45 11.675,-0.45 11.675,0.45 11.175,0.45 ; 11.175,0.85 11.675,0.85 11.675,1.29 11.175,1.29 ; -11.175,-2.5 11.175,-2.5 ; -11.175,-2.5 11.175,-2.5 ; -11.175,-2.5 -11.175,2.5 11.175,2.5 11.175,-2.5
Top 3D Body:
  lines w0.1: -11.175,-1.29 -11.675,-1.29 -11.675,-0.85 -11.175,-0.85 ; -11.175,-0.45 -11.675,-0.45 -11.675,0.45 -11.175,0.45 ; -11.175,0.85 -11.675,0.85 -11.675,1.29 -11.175,1.29 ; -9.775,-2.5 -9.775,-3.25 -9.275,-3.25 -9.275,-2.5 ; -8.505,2.5 -8.505,3.25 -8.005,3.25 -8.005,2.5 ; -7.235,-2.5 -7.235,-3.25 -6.735,-3.25 -6.735,-2.5 ; -5.965,2.5 -5.965,3.25 -5.465,3.25 -5.465,2.5 ; -4.695,-2.5 -4.695,-3.25 -4.195,-3.25 -4.195,-2.5 ; -3.425,2.5 -3.425,3.25 -2.925,3.25 -2.925,2.5 ; -2.155,-2.5 -2.155,-3.25 -1.655,-3.25 -1.655,-2.5 ; -0.885,2.5 -0.885,3.25 -0.385,3.25 -0.385,2.5 ; 0.385,-2.5 0.385,-3.25 0.885,-3.25 0.885,-2.5 ; 1.655,2.5 1.655,3.25 2.155,3.25 2.155,2.5 ; 2.925,-2.5 2.925,-3.25 3.425,-3.25 3.425,-2.5 ; 4.195,2.5 4.195,3.25 4.695,3.25 4.695,2.5 ; 5.465,-2.5 5.465,-3.25 5.965,-3.25 5.965,-2.5 ; 6.735,2.5 6.735,3.25 7.235,3.25 7.235,2.5 ; 8.005,-2.5 8.005,-3.25 8.505,-3.25 8.505,-2.5 ; 9.275,2.5 9.275,3.25 9.775,3.25 9.775,2.5 ; 11.175,-1.29 11.675,-1.29 11.675,-0.85 11.175,-0.85 ; 11.175,-0.45 11.675,-0.45 11.675,0.45 11.175,0.45 ; 11.175,0.85 11.675,0.85 11.675,1.29 11.175,1.29 ; -11.175,-2.5 -11.175,2.5 11.175,2.5 11.175,-2.5 ; -11.175,-2.5 11.175,-2.5 ; -11.175,-2.5 11.175,-2.5
Top Courtyard:
  lines w0.05: -0.5,0 0.5,0 ; 0,-0.5 0,0.5 ; -11.875,-3.95 11.875,-3.95 11.875,3.95 -11.875,3.95 -11.875,-3.95
3D body "690357281676.stp": height 5.16, standoff 0.01, extent -11.675,-3.25 11.675,3.25

## 690357281876 [mm] "MiniModule Connectors, PCB Type, Male, SMT, Vertical, 18p"
height 4.8
pads (18):
  rect 1.5x3 smd: 1(10.795,2.25) 2(9.525,-2.25) 3(8.255,2.25) 4(6.985,-2.25) 5(5.715,2.25) 6(4.445,-2.25) 7(3.175,2.25) 8(1.905,-2.25) 9(0.635,2.25) 10(-0.635,-2.25) 11(-1.905,2.25) 12(-3.175,-2.25) 13(-4.445,2.25) 14(-5.715,-2.25) 15(-6.985,2.25) 16(-8.255,-2.25) 17(-9.525,2.25) 18(-10.795,-2.25)
Top Overlay:
  lines w0.2: -11.84,-2.6 -12.595,-2.6 -12.595,2.6 -10.59,2.6 ; 10.59,-2.6 12.595,-2.6 12.595,2.6 11.84,2.6
Top Designator:
  text ".Designator" at -7.498,-0.5 h1.5
Top Component Outline:
  lines w0.1: -12.445,-1.29 -12.945,-1.29 -12.945,-0.85 -12.445,-0.85 ; -12.445,-0.45 -12.945,-0.45 -12.945,0.45 -12.445,0.45 ; -12.445,0.85 -12.945,0.85 -12.945,1.29 -12.445,1.29 ; -11.045,-2.5 -11.045,-3.25 -10.545,-3.25 -10.545,-2.5 ; -9.775,2.5 -9.775,3.25 -9.275,3.25 -9.275,2.5 ; -8.505,-2.5 -8.505,-3.25 -8.005,-3.25 -8.005,-2.5 ; -7.235,2.5 -7.235,3.25 -6.735,3.25 -6.735,2.5 ; -5.965,-2.5 -5.965,-3.25 -5.465,-3.25 -5.465,-2.5 ; -4.695,2.5 -4.695,3.25 -4.195,3.25 -4.195,2.5 ; -3.425,-2.5 -3.425,-3.25 -2.925,-3.25 -2.925,-2.5 ; -2.155,2.5 -2.155,3.25 -1.655,3.25 -1.655,2.5 ; -0.885,-2.5 -0.885,-3.25 -0.385,-3.25 -0.385,-2.5 ; 0.385,2.5 0.385,3.25 0.885,3.25 0.885,2.5 ; 1.655,-2.5 1.655,-3.25 2.155,-3.25 2.155,-2.5 ; 2.925,2.5 2.925,3.25 3.425,3.25 3.425,2.5 ; 4.195,-2.5 4.195,-3.25 4.695,-3.25 4.695,-2.5 ; 5.465,2.5 5.465,3.25 5.965,3.25 5.965,2.5 ; 6.735,-2.5 6.735,-3.25 7.235,-3.25 7.235,-2.5 ; 8.005,2.5 8.005,3.25 8.505,3.25 8.505,2.5 ; 9.275,-2.5 9.275,-3.25 9.775,-3.25 9.775,-2.5 ; 10.545,2.5 10.545,3.25 11.045,3.25 11.045,2.5 ; 12.445,-1.29 12.945,-1.29 12.945,-0.85 12.445,-0.85 ; 12.445,-0.45 12.945,-0.45 12.945,0.45 12.445,0.45 ; 12.445,0.85 12.945,0.85 12.945,1.29 12.445,1.29 ; -12.445,-2.5 -12.445,2.5 12.445,2.5 12.445,-2.5 ; -12.445,-2.5 12.445,-2.5 ; -12.445,-2.5 12.445,-2.5
Top 3D Body:
  lines w0.1: -12.445,-1.29 -12.945,-1.29 -12.945,-0.85 -12.445,-0.85 ; -12.445,-0.45 -12.945,-0.45 -12.945,0.45 -12.445,0.45 ; -12.445,0.85 -12.945,0.85 -12.945,1.29 -12.445,1.29 ; -11.045,-2.5 -11.045,-3.25 -10.545,-3.25 -10.545,-2.5 ; -9.775,2.5 -9.775,3.25 -9.275,3.25 -9.275,2.5 ; -8.505,-2.5 -8.505,-3.25 -8.005,-3.25 -8.005,-2.5 ; -7.235,2.5 -7.235,3.25 -6.735,3.25 -6.735,2.5 ; -5.965,-2.5 -5.965,-3.25 -5.465,-3.25 -5.465,-2.5 ; -4.695,2.5 -4.695,3.25 -4.195,3.25 -4.195,2.5 ; -3.425,-2.5 -3.425,-3.25 -2.925,-3.25 -2.925,-2.5 ; -2.155,2.5 -2.155,3.25 -1.655,3.25 -1.655,2.5 ; -0.885,-2.5 -0.885,-3.25 -0.385,-3.25 -0.385,-2.5 ; 0.385,2.5 0.385,3.25 0.885,3.25 0.885,2.5 ; 1.655,-2.5 1.655,-3.25 2.155,-3.25 2.155,-2.5 ; 2.925,2.5 2.925,3.25 3.425,3.25 3.425,2.5 ; 4.195,-2.5 4.195,-3.25 4.695,-3.25 4.695,-2.5 ; 5.465,2.5 5.465,3.25 5.965,3.25 5.965,2.5 ; 6.735,-2.5 6.735,-3.25 7.235,-3.25 7.235,-2.5 ; 8.005,2.5 8.005,3.25 8.505,3.25 8.505,2.5 ; 9.275,-2.5 9.275,-3.25 9.775,-3.25 9.775,-2.5 ; 10.545,2.5 10.545,3.25 11.045,3.25 11.045,2.5 ; 12.445,-1.29 12.945,-1.29 12.945,-0.85 12.445,-0.85 ; 12.445,-0.45 12.945,-0.45 12.945,0.45 12.445,0.45 ; 12.445,0.85 12.945,0.85 12.945,1.29 12.445,1.29 ; -12.445,-2.5 12.445,-2.5 ; -12.445,-2.5 12.445,-2.5 ; -12.445,-2.5 -12.445,2.5 12.445,2.5 12.445,-2.5
Top Courtyard:
  lines w0.05: -0.5,0 0.5,0 ; 0,-0.5 0,0.5 ; -13.145,-3.95 -13.145,3.95 13.145,3.95 13.145,-3.95 -13.145,-3.95
3D body "690357281876.stp": height 5.16, standoff 0.01, extent -12.945,-3.25 12.945,3.25